# Altium schematic symbol library Schlib2.SchLib: 1 symbol
Pins are listed as number, name and electrical type; pins without a type are passive.

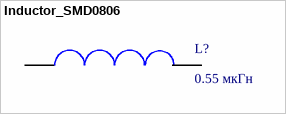
[diagram p0: symbol Inductor_SMD0806]

## Inductor_SMD0806
designator L?, comment 0.55 мкГн
Href: *; Manufacturer: *; PartNumber: *
pins: 223 2, к 1